# Altium footprint library Tactile_Switch_0.05A_24V.PcbLib: 1 footprints
Each footprint in its own frame and in the unit in brackets; x right, y up, seen from the top. Pads: shape width x height; smd on the part's side, far side on the other; paste and mask are expansions set on the pad; w line width, h text height; cw(c..) or ccw(c..) is an arc to the next point about the centre after c.
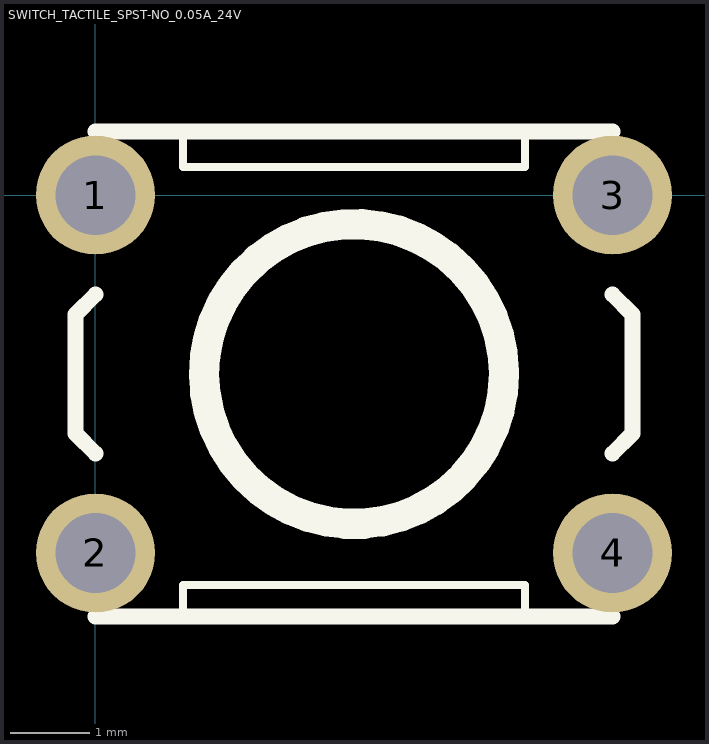
[diagram p0: the footprint, top view; thin cyan lines are the x and y axes]

## SWITCH_TACTILE_SPST-NO_0.05A_24V [mm]
pads (4):
  round 1.5 hole 1: 1(0,0) 2(0,-4.5) 3(6.5,0) 4(6.5,-4.5)
Top Overlay:
  lines w0.1: 1.1,-5.3 1.1,-4.9 5.4,-4.9 5.4,-5.3 ; 1.1,0.8 1.1,0.35 5.4,0.35 5.4,0.775
  lines w0.2: 0,-5.3 6.5,-5.3 ; 0,-3.25 -0.25,-3 -0.25,-1.5 0,-1.25 ; 0,0.8 6.5,0.8 ; 6.5,-3.25 6.75,-3 6.75,-1.5 6.5,-1.25
  lines w0.381: 5.135,-2.25 cw(c3.25,-2.25) 5.135,-2.223
3D body "User Library-diptronics tactile dts-63k.step": height 7, standoff -3.5, extent -0.75,-5.375 7.15,0.825